# Altium schematic symbol library Stick.SchLib: 1 symbol
Pins are listed as number, name and electrical type; pins without a type are passive.

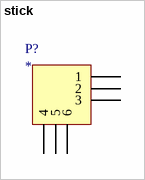
[diagram p0: symbol stick]

## stick
designator P?
footprint Stick
pins: 1, 2, 3, 4, 5, 6